# Altium footprint library PCBLIB-PCSB_5.1.3.PcbLib: 181 footprints (part 9 of 12)
Each footprint in its own frame and in the unit in brackets; x right, y up, seen from the top. Pads: shape width x height; smd on the part's side, far side on the other; paste and mask are expansions set on the pad; w line width, h text height; cw(c..) or ccw(c..) is an arc to the next point about the centre after c.
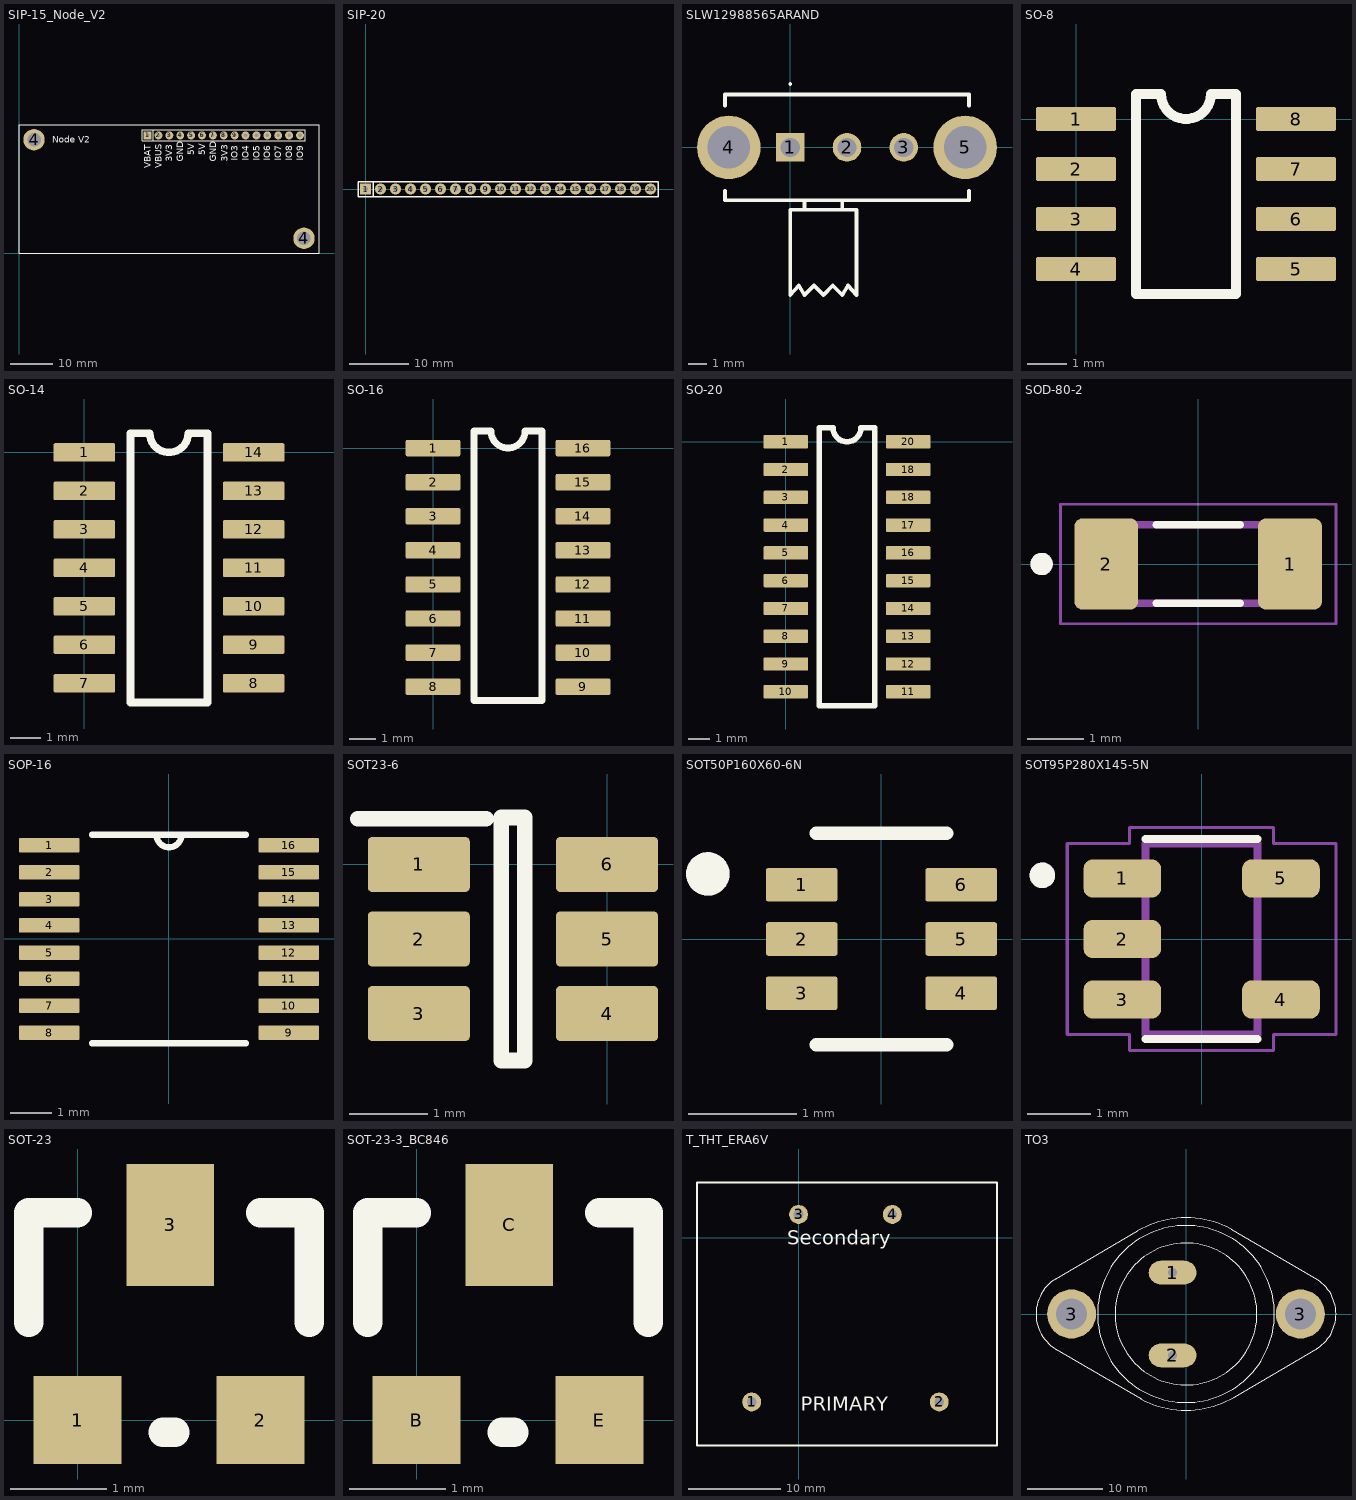
[diagram p8: the footprints below, top view; thin cyan lines are the x and y axes]

## SIP-15_Node_V2 [mm] "LB-2024-04-17"
pads (17):
  rect 1.85x1.85 hole 0.85: 1(30,27.5)
  round 1.85 hole 0.85: 2(32.54,27.5) 3(35.08,27.5) 4(37.62,27.5) 5(40.16,27.5) 6(42.7,27.5) 7(45.24,27.5) 8(47.78,27.5) 9(50.32,27.5) 10(52.86,27.5) 11(55.4,27.5) 12(57.94,27.5) 13(60.48,27.5) 14(63.02,27.5) 15(65.56,27.5)
  round 5 hole 3.15: 4(3.5,26.5) 4(66.5,3.5)
Top Overlay:
  lines w0.254: 31.27,26.23 31.27,28.77 ; 0,0 70,0 70,29 70,30 0,30 0,0 ; 28.73,26.23 28.73,28.77 66.83,28.77 66.83,28.135 66.83,26.865 66.83,26.23 28.73,26.23
  text "GND" at 38.354,21.344 h1.52
  text "GND" at 45.974,21.344 h1.52
  text "5V" at 40.894,22.868 h1.52
  text "5V" at 43.434,22.868 h1.52
  text "3V3" at 35.814,21.344 h1.52
  text "3V3" at 48.655,21.368 h1.52
  text "VBUS" at 33.274,19.82 h1.52
  text "VBAT" at 30.734,19.82 h1.52
  text "IO3" at 51.054,21.598 h1.52
  text "IO4" at 53.594,21.598 h1.52
  text "IO5" at 56.134,21.598 h1.52
  text "IO7" at 61.214,21.598 h1.52
  text "IO8" at 63.754,21.598 h1.52
  text "IO9" at 66.294,21.598 h1.52
  text "IO6" at 58.674,21.598 h1.52
  text "Node V2" at 7.754,25.754 h1.52

## SIP-20 [mm] "LB-2024-04-17"
pads (20):
  rect 1.85x1.85 hole 0.85: 1(0,0)
  round 1.85 hole 0.85: 2(2.54,0) 3(5.08,0) 4(7.62,0) 5(10.16,0) 6(12.7,0) 7(15.24,0) 8(17.78,0) 9(20.32,0) 10(22.86,0) 11(25.4,0) 12(27.94,0) 13(30.48,0) 14(33.02,0) 15(35.56,0) 16(38.1,0) 17(40.64,0) 18(43.18,0) 19(45.72,0) 20(48.26,0)
Top Overlay:
  lines w0.254: 1.27,-1.27 1.27,1.27 ; -1.27,-1.27 -1.27,1.27 49.53,1.27 49.53,-1.27 -1.27,-1.27

## SLW12988565ARAND [mm]
pads (5):
  rect 1.515x1.515 hole 1.01: 1(0,0)
  round 1.515 hole 1.01: 2(3,0) 3(6,0)
  round 3.36 hole 2.24: 4(-3.25,0) 5(9.25,0)
Top Overlay:
  lines w0.1: 0,3.3 cw(c0,3.35) 0,3.4 cw(c0,3.35) 0,3.3
  lines w0.2: -3.45,-2.3 -3.45,-2.8 9.45,-2.8 9.45,-2.3 ; -3.45,2.2 -3.45,2.8 9.45,2.8 9.45,2.2 ; 0.75,-2.8 0.75,-3.3 ; 2.75,-2.8 2.75,-3.3 ; 0.75,-3.3 0,-3.3 0,-7.8 0.45,-7.3 0.75,-7.8 1.25,-7.3 1.75,-7.8 2.25,-7.3 2.75,-7.8 3.05,-7.3 3.5,-7.8 3.5,-3.3 2.75,-3.3 ; 0.75,-3.3 2.75,-3.3

## SO-8 [mil] "LB-2024-04-17"
pads (8):
  rrect15% 80x24 smd paste-0.79 mask+1.97: 1(0,0) 2(0,-50) 3(0,-100) 4(0,-150) 5(220,-150) 6(220,-100) 7(220,-50) 8(220,0)
Top Overlay:
  lines w10: 60,-175 60,25 85,25 ccw(c110,25) 135,25 160,25 160,-175 60,-175

## SO-14 [mil] "LB-2024-04-17"
pads (14):
  rrect15% 80x24 smd paste-0.79 mask+1.97: 1(0,0) 2(0,-50) 3(0,-100) 4(0,-150) 5(0,-200) 6(0,-250) 7(0,-300) 8(220,-300) 9(220,-250) 10(220,-200) 11(220,-150) 12(220,-100) 13(220,-50) 14(220,0)
Top Overlay:
  lines w10: 60,-325 160,-325 160,25 135,25 cw(c110,25) 85,25 60,25 60,-325

## SO-16 [mil] "LB-2024-04-17"
pads (16):
  rrect15% 80x24 smd paste-0.79 mask+1.97: 1(0,0) 2(0,-50) 3(0,-100) 4(0,-150) 5(0,-200) 6(0,-250) 7(0,-300) 8(0,-350) 9(220,-350) 10(220,-300) 11(220,-250) 12(220,-200) 13(220,-150) 14(220,-100) 15(220,-50) 16(220,0)
Top Overlay:
  lines w10: 60,-370 160,-370 160,25 135,25 cw(c110,25) 85,25 60,25 60,-370

## SO-20 [mil] "LB-2024-04-17"
pads (20):
  rrect15% 80x24 smd paste-0.79 mask+1.97: 1(0,0) 2(0,-50) 3(0,-100) 4(0,-150) 5(0,-200) 6(0,-250) 7(0,-300) 8(0,-350) 9(0,-400) 10(0,-450) 11(220,-450) 12(220,-400) 13(220,-350) 14(220,-300) 15(220,-250) 16(220,-200) 17(220,-150) 18(220,-100) 18(220,-50) 20(220,0)
Top Overlay:
  lines w10: 60,-475 60,25 85,25 ccw(c110,25) 135,25 160,25 160,-475 60,-475

## SOD-80-2 [mm] "SMD-Dioden Footprint z.b.: FDLL4148"
pads (2):
  rrect25% 1.14x1.63 smd: 1(1.64,0) 2(-1.64,0)
Top Overlay:
  circle w0.2: c-2.795,0 r0.1
  lines w0.127: -0.75,-0.7 0.75,-0.7 ; -0.75,0.7 0.75,0.7
Mechanical 13:
  circle w0.2: c-2.795,0 r0.1
  lines w0.127: -1.7,-0.7 -1.7,0.7 1.7,0.7 1.7,-0.7 -1.7,-0.7
Mechanical 15:
  lines w0.05: -2.46,-1.065 -2.46,1.065 2.46,1.065 2.46,-1.065 -2.46,-1.065

## SOP-16 [mil] "LB-2024-04-17"
pads (16):
  rrect15% 58x14 smd paste-0.79 mask+1.97: 1(-115,90) 2(-115,64) 3(-115,38) 4(-115,13) 5(-115,-13) 6(-115,-38) 7(-115,-64) 8(-115,-90) 9(115,-90) 10(115,-64) 11(115,-38) 12(115,-13) 13(115,13) 14(115,38) 15(115,64) 16(115,90)
Top Overlay:
  lines w6: -74,-100 74,-100 ; -74,100 -12,100 ; 74,100 12,100 ; -12,100 ccw(c0,100) 12,100 ; -12,100 12,100
Mechanical 13:
  lines w0: -12,100 ccw(c0,100) 12,100

## SOT23-6 [mm] "LB-2024-04-25"
height 1.45
pads (6):
  rrect15% 1.3x0.7 smd paste-0.02 mask+0.05: 1(-2.4,0) 2(-2.4,-0.95) 3(-2.4,-1.9) 4(0,-1.9) 5(0,-0.95) 6(0,0)
Top Overlay:
  lines w0.2: -3.175,0.584 -1.539,0.584 ; -1.35,-2.5 -1.05,-2.5 -1.05,0.6 -1.35,0.6 -1.35,-2.5

## SOT50P160X60-6N [mm]
pads (6):
  rrect15% 0.66x0.31 smd paste-0.02 mask+0.05: 1(-0.735,0.5) 2(-0.735,0) 3(-0.735,-0.5) 4(0.735,-0.5) 5(0.735,0) 6(0.735,0.5)
Top Overlay:
  circle w0.2: c-1.6,0.6 r0.1
  lines w0.127: -0.6,-0.975 0.6,-0.975 ; -0.6,0.975 0.6,0.975
Mechanical 13:
  circle w0.2: c-1.6,0.6 r0.1

## SOT95P280X145-5N [mm]
pads (5):
  rrect50% 1.22x0.6 smd: 1(-1.245,0.95) 2(-1.245,0) 3(-1.245,-0.95) 4(1.245,-0.95) 5(1.245,0.95)
Top Overlay:
  circle w0.2: c-2.5,1 r0.1
  lines w0.127: -0.88,-1.57 0.88,-1.57 ; -0.88,1.57 0.88,1.57
Mechanical 13:
  circle w0.2: c-2.5,1 r0.1
  lines w0.127: -0.88,-1.5 0.88,-1.5 0.88,1.5 -0.88,1.5 -0.88,-1.5
Mechanical 15:
  lines w0.05: -2.11,-1.5 -2.11,1.5 -1.13,1.5 -1.13,1.75 1.13,1.75 1.13,1.5 2.11,1.5 2.11,-1.5 1.13,-1.5 1.13,-1.75 -1.13,-1.75 -1.13,-1.5 -2.11,-1.5
3D body "step_temp.STEP": height 1.45, standoff 0, extent -1.45,-1.35 1.45,1.35

## SOT-23 [mil]
pads (3):
  rect 36x36 smd: 1(0,0) 2(75,0)
  rect 36x50 smd: 3(38,80)
Top Overlay:
  lines w12: -20,40 -20,85 0,85 ; 35,-5 40,-5 ; 75,85 95,85 95,40

## SOT-23-3_BC846 [mil] "SMD Footprint für BC846"
pads (3):
  rect 36x36 smd: B(0,0) E(75,0)
  rect 36x50 smd: C(38,80)
Top Overlay:
  lines w12: -20,40 -20,85 0,85 ; 35,-5 40,-5 ; 75,85 95,85 95,40

## T_THT_ERA6V [mm] "LB-2024-04-17"
pads (4):
  round 2.05 hole 1.05: 1(-5.08,-17.78) 2(15.24,-17.78) 3(0,2.54) 4(10.16,2.54)
Top Overlay:
  lines w0.254: -11,-22.5 21.5,-22.5 21.5,6 -11,6 -11,-22.5
  text "PRIMARY" at 0.254,-18.746 h1.52
  text "Secondary" at -1.246,-0.738 h1.52

## TO3 [mil] "LB-2024-04-17"
pads (4):
  oval 248x124 hole 47.05: 1(-70,215) 2(-70,-215)
  round 255 hole 162: 3(-595,0) 3(595,0)
Top Overlay:
  circle w6: c0,0 r369
  circle w2: c0,0 r460
  lines w6: -680,180 -250,433 cw(c0,0) 0,500 cw(c0,0) 234.74,441.47 ; -679,-181 -234,-442 ; -676.7,-182.58 cw(c-567,0) -780,0 cw(c-567,0) -673.5,184.46 ; -234.74,-441.47 ccw(c0,0) 0,-500 ccw(c0,0) 250,-433.01 ; 235,441 684,178 ; 251,-433 684,-178 ; 683.01,-178.64 ccw(c567,0) 780,0 ccw(c567,0) 683.01,178.64
Mechanical 13:
  circle w6: c595,0 r85
  circle w6: c-595,0 r85